# Altium schematic symbol library MCP47FEB04T-EMQ.SchLib: 1 symbol
Pins are listed as number, name and electrical type; pins without a type are passive.

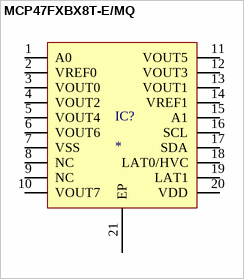
[diagram p0: symbol MCP47FXBX8T-E/MQ]

## MCP47FXBX8T-E/MQ
designator IC?
footprint 2MICROCHIP_20-Lead_5x5VQFN
pins: 1 A0, 2 VREF0, 3 VOUT0, 4 VOUT2, 5 VOUT4, 6 VOUT6, 7 VSS, 8 NC, 9 NC, 10 VOUT7, 11 VOUT5, 12 VOUT3, 13 VOUT1, 14 VREF1, 15 A1, 16 SCL, 17 SDA, 18 LAT0/HVC, 19 LAT1, 20 VDD, 21 EP